# Altium integrated library TI Power Management Linear Regulator Single Channel LDO (0-350mA).IntLib: 1648 symbols (part 52 of 66)
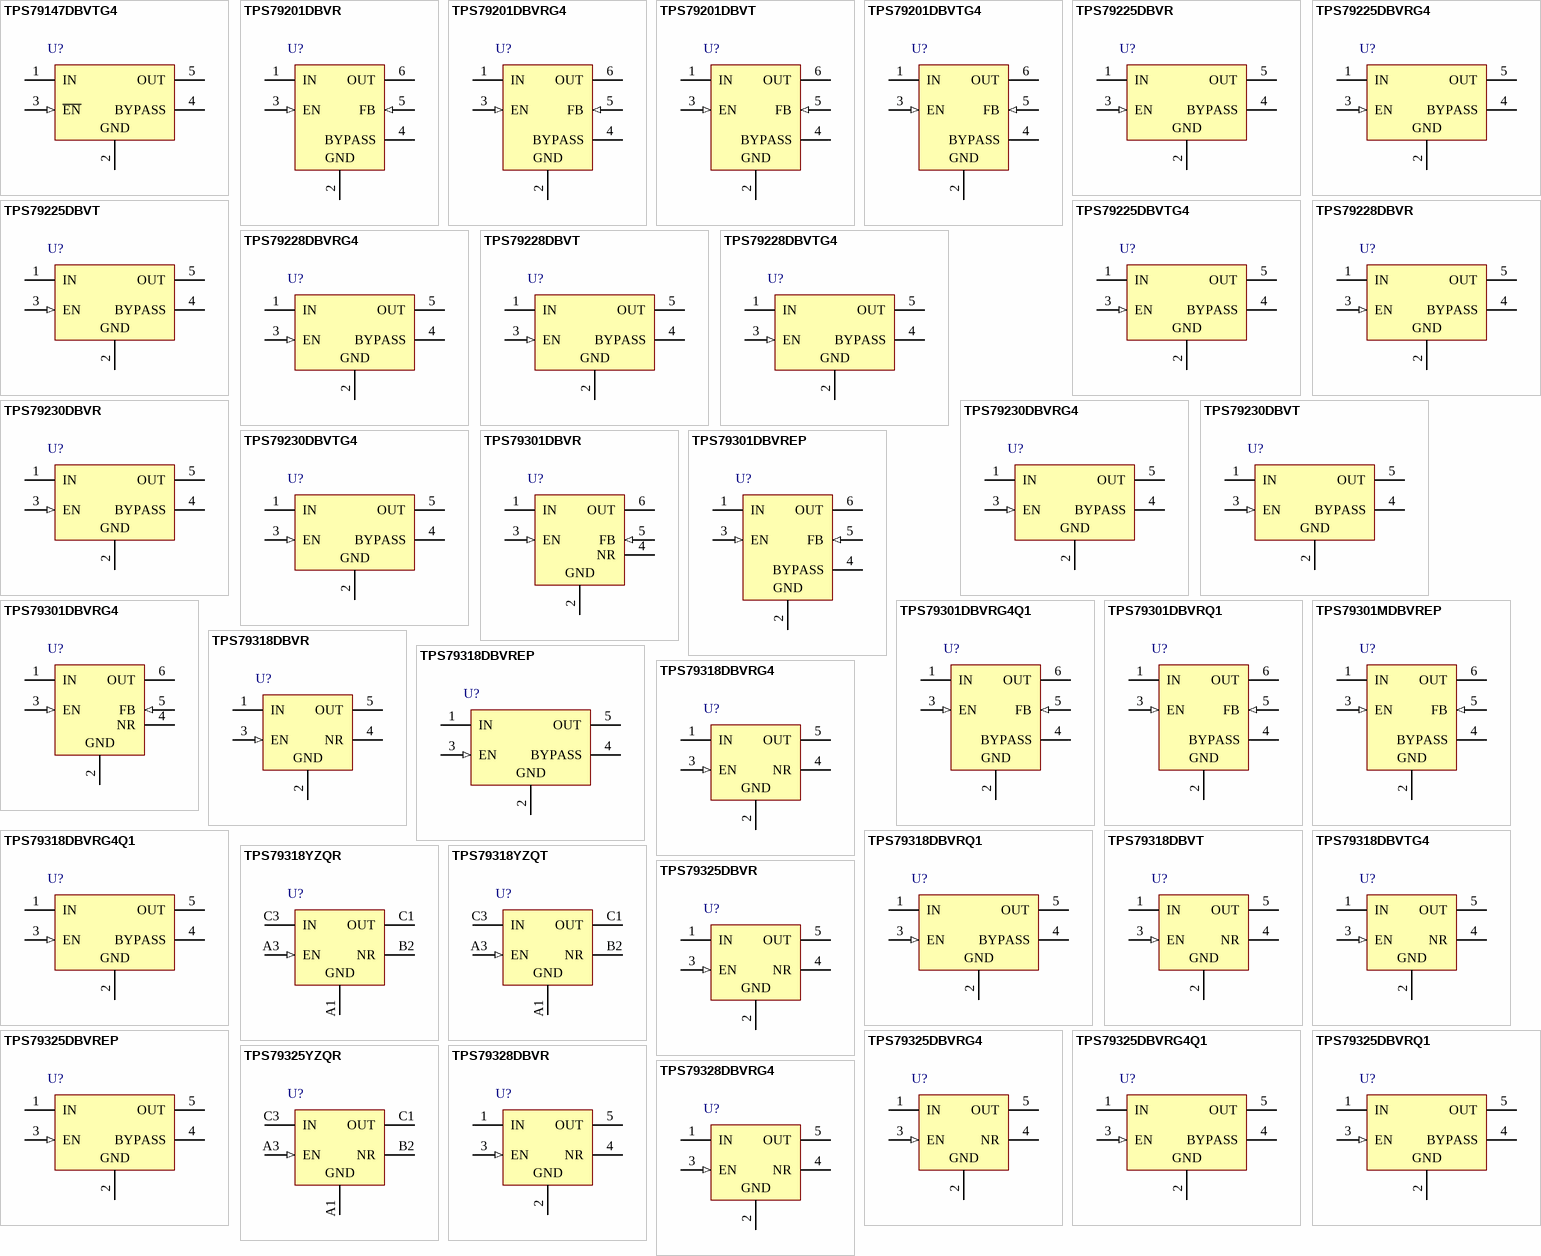
[diagram p93: symbols TPS79147DBVTG4 to TPS79328DBVRG4]

## TPS79325YZQR
designator U?
Single Output High PSRR LDO, 200 mA, Fixed 2.5 V Output, 2.7 to 5.5 V Input, 5-pin DSBGA (YZQ), -40 to 85 degC, Green (RoHS & no Sb/Br); Manufacturer: Texas Instruments; PartNumber: TPS79325YZQR; Accuracy(%): 2; Fixed Output Options(V): 2.5; Iout(Max)(A): 0.2; Rating: Catalog; SubFamily: Single Channel LDO; Vdo(Typ)(mV): 112; Vin(Max)(V): 5.5; Vin(Min)(V): 2.7; DatasheetVersion: SLVS348K; PackageVersion: 4205677/C; PackageReference: YZQ5; PackageDescription: 5-Pin Silicon Grid Array, Body 1.32 x 0.815 mm, Pitch 0.25 mm; Supplier 1: Digi-Key; Supplier Part Number 1: 296-21286-2-ND; Supplier 2: Digi-Key; Supplier Part Number 2: 296-21286-1-ND; Supplier 3: Digi-Key; Supplier Part Number 3: 296-21286-6-ND; Supplier 4: Newark; Supplier Part Number 4: 37K4641; Supplier 5: Mouser; Supplier Part Number 5: 595-TPS79325YZQR; Eco-Plan: Green (RoHS & no Sb/Br); Iq(Typ)(mA): 0.2; Vout Adj(Max)(V): 2.5; Vout Adj(Min)(V): 2.5; Mounting Technology: Surface Mount; ComponentLink1Description: Manufacturer URL; ComponentLink1URL: http://www.ti.com/; ComponentLink2Description: Datasheet; ComponentLink2URL: http://www.ti.com/general/docs/lit/getliterature.tsp?genericPartNumber=TPS79325&fileType=pdf; ComponentLink3Description: Package Specification; ComponentLink3URL: http://www.ti.com/litv/pdf/mxbg047b
footprint TI-YZQ5-1320x815DE (BAG, 5-Balls, Body 1.32x0.815mm, Pitch 0.25mm)
pins: A1 GND (power) "Ground", A3 EN (in) "Driving the enable pin (EN) high turns on the regulator.Driving this pin low puts the regulator into shutdown mode.EN can be connected to IN if not used.", B2 NR "Connecting an external capacitor to this pin bypasses noise generated by the internal bandgap.This improves power-supply rejection and reduces output noise.", C1 OUT (power) "Output of the regulator.", C3 IN (power) "Input to the device."

## TPS79328DBVR
designator U?
Single Output High PSRR LDO, 200 mA, Fixed 2.8 V Output, 2.7 to 5.5 V Input, 5-pin SOT-23 (DBV), -40 to 85 degC, Green (RoHS & no Sb/Br); Manufacturer: Texas Instruments; PartNumber: TPS79328DBVR; Accuracy(%): 2; Fixed Output Options(V): 2.8; Iout(Max)(A): 0.2; Rating: Catalog; SubFamily: Single Channel LDO; Vdo(Typ)(mV): 120; Vin(Max)(V): 5.5; Vin(Min)(V): 2.7; DatasheetVersion: SLVS348K; PackageVersion: 4073253-4/K; PackageReference: DBV5; PackageDescription: 5-Pin Plastic Small Outline, Body 1.60 × 2.90 mm, Pitch 0.95 mm; Supplier 1: Digi-Key; Supplier Part Number 1: 296-12158-2-ND; Supplier 2: Digi-Key; Supplier Part Number 2: 296-12158-1-ND; Supplier 3: Digi-Key; Supplier Part Number 3: 296-12158-6-ND; Supplier 4: Newark; Supplier Part Number 4: 77C1361; Supplier 5: Mouser; Supplier Part Number 5: 595-TPS79328DBVR; Eco-Plan: Green (RoHS & no Sb/Br); Iq(Typ)(mA): 0.2; Vout Adj(Max)(V): 2.8; Vout Adj(Min)(V): 2.8; Mounting Technology: Surface Mount; Code_JEDEC: MO-178; ComponentLink1Description: Manufacturer URL; ComponentLink1URL: http://www.ti.com/; ComponentLink2Description: Datasheet; ComponentLink2URL: http://www.ti.com/general/docs/lit/getliterature.tsp?genericPartNumber=TPS79328&fileType=pdf; ComponentLink3Description: Package Specification; ComponentLink3URL: http://www.ti.com/litv/pdf/mpds018i
footprint TI-DBV5_N (SOT23, 5-Leads, Body 2.9x1.6mm, Pitch 0.95mm, IPC Medium Density)
footprint TI-DBV5_L (SOT23, 5-Leads, Body 2.9x1.6mm, Pitch 0.95mm, IPC High Density)
footprint TI-DBV5_M (SOT23, 5-Leads, Body 2.9x1.6mm, Pitch 0.95mm, IPC Low Density)
pins: 1 IN (power) "Input supply.", 2 GND (power) "Ground.", 3 EN (in) "Driving the enable pin (EN) high turns on the regulator .Driving this pin low puts the regulator into shutdown mode.EN can be connected to IN if not used.", 4 NR "Fixed voltage versions only; connecting an external capacitor to this pin bypasses noise generated by the internal bandgap. This capacitor allows output noise to be reduced to very low levels.", 5 OUT (power) "Output for the regulator. A small capacitor (total typical capacitance >= 2.0uF ceramic) is needed from this pin to ground to assure stability."

## TPS79328DBVRG4
designator U?
Single Output High PSRR LDO, 200 mA, Fixed 2.8 V Output, 2.7 to 5.5 V Input, 5-pin SOT-23 (DBV), -40 to 85 degC, Green (RoHS & no Sb/Br); Manufacturer: Texas Instruments; PartNumber: TPS79328DBVRG4; Accuracy(%): 2; Fixed Output Options(V): 2.8; Iout(Max)(A): 0.2; Rating: Catalog; SubFamily: Single Channel LDO; Vdo(Typ)(mV): 120; Vin(Max)(V): 5.5; Vin(Min)(V): 2.7; DatasheetVersion: SLVS348K; PackageVersion: 4073253-4/K; PackageReference: DBV5; PackageDescription: 5-Pin Plastic Small Outline, Body 1.60 × 2.90 mm, Pitch 0.95 mm; Supplier 1: Digi-Key; Supplier Part Number 1: TPS79328DBVRG4-ND; Supplier 2: Farnell; Supplier Part Number 2: 1287687RL; Supplier 3: Farnell; Supplier Part Number 3: 1287687; Supplier 4: Newark; Supplier Part Number 4: 26M4295; Supplier 5: Mouser; Supplier Part Number 5: 595-TPS79328DBVRG4; Eco-Plan: Green (RoHS & no Sb/Br); Iq(Typ)(mA): 0.2; Vout Adj(Max)(V): 2.8; Vout Adj(Min)(V): 2.8; Mounting Technology: Surface Mount; Code_JEDEC: MO-178; ComponentLink1Description: Manufacturer URL; ComponentLink1URL: http://www.ti.com/; ComponentLink2Description: Datasheet; ComponentLink2URL: http://www.ti.com/general/docs/lit/getliterature.tsp?genericPartNumber=TPS79328&fileType=pdf; ComponentLink3Description: Package Specification; ComponentLink3URL: http://www.ti.com/litv/pdf/mpds018i
footprint TI-DBV5_N (SOT23, 5-Leads, Body 2.9x1.6mm, Pitch 0.95mm, IPC Medium Density)
footprint TI-DBV5_L (SOT23, 5-Leads, Body 2.9x1.6mm, Pitch 0.95mm, IPC High Density)
footprint TI-DBV5_M (SOT23, 5-Leads, Body 2.9x1.6mm, Pitch 0.95mm, IPC Low Density)
pins: 1 IN (power) "Input supply.", 2 GND (power) "Ground.", 3 EN (in) "Driving the enable pin (EN) high turns on the regulator .Driving this pin low puts the regulator into shutdown mode.EN can be connected to IN if not used.", 4 NR "Fixed voltage versions only; connecting an external capacitor to this pin bypasses noise generated by the internal bandgap. This capacitor allows output noise to be reduced to very low levels.", 5 OUT (power) "Output for the regulator. A small capacitor (total typical capacitance >= 2.0uF ceramic) is needed from this pin to ground to assure stability."

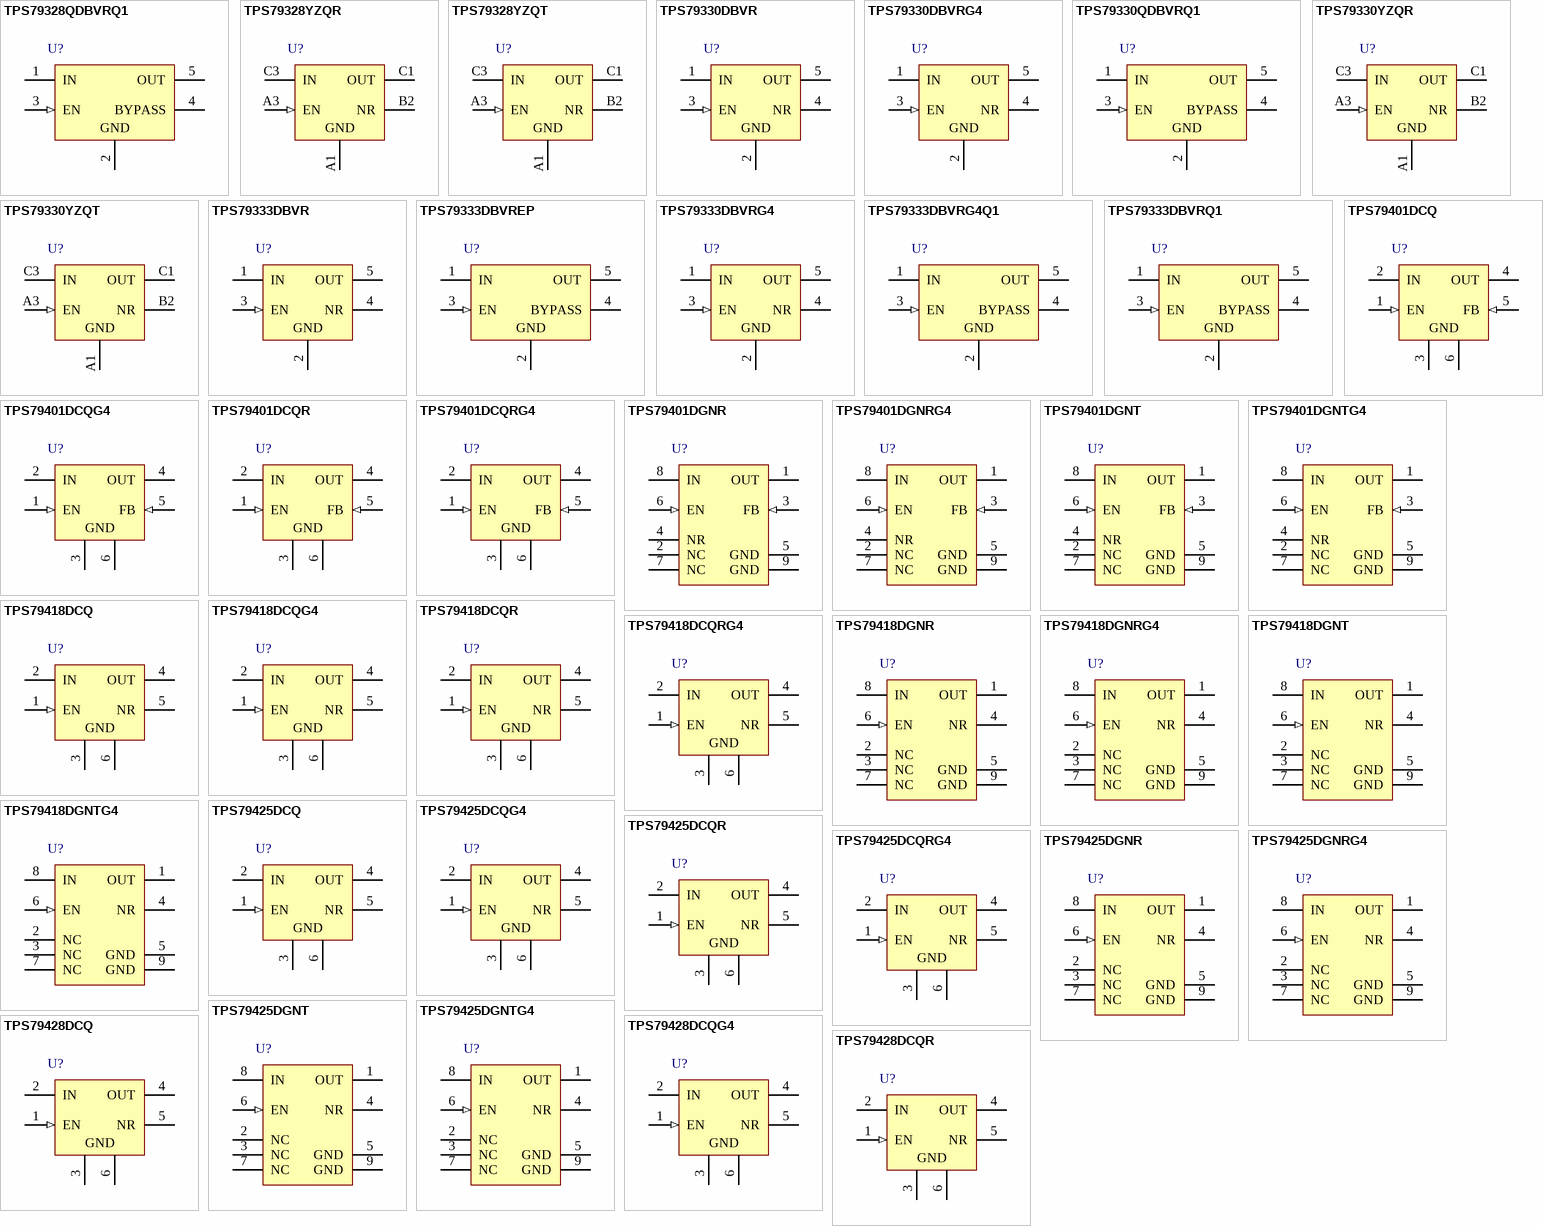
[diagram p34: symbols TPS79328QDBVRQ1 to TPS79428DCQR]

## TPS79328QDBVRQ1
designator U?
Single Output Fast RF LDO, 200 mA, Fixed 2.8 V Output, 2.7 to 5.5 V Input, 5-pin SOT-23 (DBV), -40 to 125 degC, Green (RoHS & no Sb/Br); Manufacturer: Texas Instruments; PartNumber: TPS79328QDBVRQ1; Accuracy(%): 2; Fixed Output Options(V): 2.8; Iout(Max)(A): 0.2; Rating: Automotive; SubFamily: Single Channel LDO; Vdo(Typ)(mV): 120; Vin(Max)(V): 5.5; Vin(Min)(V): 2.7; DatasheetVersion: SGLS162G; PackageVersion: 4073253-4/K; PackageReference: DBV5; PackageDescription: 5-Pin Plastic Small Outline, Body 1.60 × 2.90 mm, Pitch 0.95 mm; Supplier 1: Digi-Key; Supplier Part Number 1: TPS79328QDBVRQ1-ND; Supplier 2: Mouser; Supplier Part Number 2: 595-TPS79328QDBVRQ1; Eco-Plan: Green (RoHS & no Sb/Br); Iq(Typ)(mA): 0.2; Vout Adj(Max)(V): 2.8; Vout Adj(Min)(V): 2.8; Mounting Technology: Surface Mount; Code_JEDEC: MO-178; ComponentLink1Description: Manufacturer URL; ComponentLink1URL: http://www.ti.com/; ComponentLink2Description: Datasheet; ComponentLink2URL: http://www.ti.com/general/docs/lit/getliterature.tsp?genericPartNumber=TPS79328-Q1&fileType=pdf; ComponentLink3Description: Package Specification; ComponentLink3URL: http://www.ti.com/litv/pdf/mpds018i
footprint TI-DBV5_N (SOT23, 5-Leads, Body 2.9x1.6mm, Pitch 0.95mm, IPC Medium Density)
footprint TI-DBV5_L (SOT23, 5-Leads, Body 2.9x1.6mm, Pitch 0.95mm, IPC High Density)
footprint TI-DBV5_M (SOT23, 5-Leads, Body 2.9x1.6mm, Pitch 0.95mm, IPC Low Density)
pins: 1 IN (power) "Input to the device", 2 GND (power) "Regulator ground", 3 EN (in) "Enable input that enables or shuts down the device. When EN goes to a logic high, the device is enabled. When the device goes to a logic low, the devices is in shutdown mode.", 4 BYPASS "An external bypass capacitor, connected to this terminal, in conjunction with an internal resistor, creates a low-pass filter to further reduce regulator noise.", 5 OUT (power) "Regulated output of the device"

## TPS79328YZQR
designator U?
Single Output High PSRR LDO, 200 mA, Fixed 2.8 V Output, 2.7 to 5.5 V Input, 5-pin DSBGA (YZQ), -40 to 85 degC, Green (RoHS & no Sb/Br); Manufacturer: Texas Instruments; PartNumber: TPS79328YZQR; Accuracy(%): 2; Fixed Output Options(V): 2.8; Iout(Max)(A): 0.2; Rating: Catalog; SubFamily: Single Channel LDO; Vdo(Typ)(mV): 120; Vin(Max)(V): 5.5; Vin(Min)(V): 2.7; DatasheetVersion: SLVS348K; PackageVersion: 4205677/C; PackageReference: YZQ5; PackageDescription: 5-Pin Silicon Grid Array, Body 1.32 x 0.815 mm, Pitch 0.25 mm; Supplier 1: Digi-Key; Supplier Part Number 1: TPS79328YZQR-ND; Supplier 2: Mouser; Supplier Part Number 2: 595-TPS79328YZQR; Eco-Plan: Green (RoHS & no Sb/Br); Iq(Typ)(mA): 0.2; Vout Adj(Max)(V): 2.8; Vout Adj(Min)(V): 2.8; Mounting Technology: Surface Mount; ComponentLink1Description: Manufacturer URL; ComponentLink1URL: http://www.ti.com/; ComponentLink2Description: Datasheet; ComponentLink2URL: http://www.ti.com/general/docs/lit/getliterature.tsp?genericPartNumber=TPS79328&fileType=pdf; ComponentLink3Description: Package Specification; ComponentLink3URL: http://www.ti.com/litv/pdf/mxbg047b
footprint TI-YZQ5-1320x815DE (BAG, 5-Balls, Body 1.32x0.815mm, Pitch 0.25mm)
pins: A1 GND (power) "Ground", A3 EN (in) "Driving the enable pin (EN) high turns on the regulator.Driving this pin low puts the regulator into shutdown mode.EN can be connected to IN if not used.", B2 NR "Connecting an external capacitor to this pin bypasses noise generated by the internal bandgap.This improves power-supply rejection and reduces output noise.", C1 OUT (power) "Output of the regulator.", C3 IN (power) "Input to the device."

## TPS79328YZQT
designator U?
Single Output High PSRR LDO, 200 mA, Fixed 2.8 V Output, 2.7 to 5.5 V Input, 5-pin DSBGA (YZQ), -40 to 85 degC, Green (RoHS & no Sb/Br); Manufacturer: Texas Instruments; PartNumber: TPS79328YZQT; Accuracy(%): 2; Fixed Output Options(V): 2.8; Iout(Max)(A): 0.2; Rating: Catalog; SubFamily: Single Channel LDO; Vdo(Typ)(mV): 120; Vin(Max)(V): 5.5; Vin(Min)(V): 2.7; DatasheetVersion: SLVS348K; PackageVersion: 4205677/C; PackageReference: YZQ5; PackageDescription: 5-Pin Silicon Grid Array, Body 1.32 x 0.815 mm, Pitch 0.25 mm; Supplier 1: Digi-Key; Supplier Part Number 1: 296-18735-2-ND; Supplier 2: Digi-Key; Supplier Part Number 2: 296-18735-1-ND; Supplier 3: Digi-Key; Supplier Part Number 3: 296-18735-6-ND; Supplier 4: Mouser; Supplier Part Number 4: 595-TPS79328YZQT; Eco-Plan: Green (RoHS & no Sb/Br); Iq(Typ)(mA): 0.2; Vout Adj(Max)(V): 2.8; Vout Adj(Min)(V): 2.8; Mounting Technology: Surface Mount; ComponentLink1Description: Manufacturer URL; ComponentLink1URL: http://www.ti.com/; ComponentLink2Description: Datasheet; ComponentLink2URL: http://www.ti.com/general/docs/lit/getliterature.tsp?genericPartNumber=TPS79328&fileType=pdf; ComponentLink3Description: Package Specification; ComponentLink3URL: http://www.ti.com/litv/pdf/mxbg047b
footprint TI-YZQ5-1320x815DE (BAG, 5-Balls, Body 1.32x0.815mm, Pitch 0.25mm)
pins: A1 GND (power) "Ground", A3 EN (in) "Driving the enable pin (EN) high turns on the regulator.Driving this pin low puts the regulator into shutdown mode.EN can be connected to IN if not used.", B2 NR "Connecting an external capacitor to this pin bypasses noise generated by the internal bandgap.This improves power-supply rejection and reduces output noise.", C1 OUT (power) "Output of the regulator.", C3 IN (power) "Input to the device."

## TPS79330DBVR
designator U?
Single Output High PSRR LDO, 200 mA, Fixed 3 V Output, 2.7 to 5.5 V Input, 5-pin SOT-23 (DBV), -40 to 85 degC, Green (RoHS & no Sb/Br); Manufacturer: Texas Instruments; PartNumber: TPS79330DBVR; Accuracy(%): 2; Fixed Output Options(V): 3; Iout(Max)(A): 0.2; Rating: Catalog; SubFamily: Single Channel LDO; Vdo(Typ)(mV): 112; Vin(Max)(V): 5.5; Vin(Min)(V): 2.7; DatasheetVersion: SLVS348K; PackageVersion: 4073253-4/K; PackageReference: DBV5; PackageDescription: 5-Pin Plastic Small Outline, Body 1.60 × 2.90 mm, Pitch 0.95 mm; Supplier 1: Digi-Key; Supplier Part Number 1: 296-12159-2-ND; Supplier 2: Digi-Key; Supplier Part Number 2: 296-12159-1-ND; Supplier 3: Digi-Key; Supplier Part Number 3: 296-12159-6-ND; Supplier 4: Farnell; Supplier Part Number 4: 1535767; Supplier 5: Newark; Supplier Part Number 5: 77C1364; Supplier 6: Mouser; Supplier Part Number 6: 595-TPS79330DBVR; Eco-Plan: Green (RoHS & no Sb/Br); Iq(Typ)(mA): 0.2; Vout Adj(Max)(V): 3; Vout Adj(Min)(V): 3; Mounting Technology: Surface Mount; Code_JEDEC: MO-178; ComponentLink1Description: Manufacturer URL; ComponentLink1URL: http://www.ti.com/; ComponentLink2Description: Datasheet; ComponentLink2URL: http://www.ti.com/general/docs/lit/getliterature.tsp?genericPartNumber=TPS79330&fileType=pdf; ComponentLink3Description: Package Specification; ComponentLink3URL: http://www.ti.com/litv/pdf/mpds018i
footprint TI-DBV5_N (SOT23, 5-Leads, Body 2.9x1.6mm, Pitch 0.95mm, IPC Medium Density)
footprint TI-DBV5_L (SOT23, 5-Leads, Body 2.9x1.6mm, Pitch 0.95mm, IPC High Density)
footprint TI-DBV5_M (SOT23, 5-Leads, Body 2.9x1.6mm, Pitch 0.95mm, IPC Low Density)
pins: 1 IN (power) "Input supply.", 2 GND (power) "Ground.", 3 EN (in) "Driving the enable pin (EN) high turns on the regulator .Driving this pin low puts the regulator into shutdown mode.EN can be connected to IN if not used.", 4 NR "Fixed voltage versions only; connecting an external capacitor to this pin bypasses noise generated by the internal bandgap. This capacitor allows output noise to be reduced to very low levels.", 5 OUT (power) "Output for the regulator. A small capacitor (total typical capacitance >= 2.0uF ceramic) is needed from this pin to ground to assure stability."

## TPS79330DBVRG4
designator U?
Single Output High PSRR LDO, 200 mA, Fixed 3 V Output, 2.7 to 5.5 V Input, 5-pin SOT-23 (DBV), -40 to 85 degC, Green (RoHS & no Sb/Br); Manufacturer: Texas Instruments; PartNumber: TPS79330DBVRG4; Accuracy(%): 2; Fixed Output Options(V): 3; Iout(Max)(A): 0.2; Rating: Catalog; SubFamily: Single Channel LDO; Vdo(Typ)(mV): 112; Vin(Max)(V): 5.5; Vin(Min)(V): 2.7; DatasheetVersion: SLVS348K; PackageVersion: 4073253-4/K; PackageReference: DBV5; PackageDescription: 5-Pin Plastic Small Outline, Body 1.60 × 2.90 mm, Pitch 0.95 mm; Supplier 1: Digi-Key; Supplier Part Number 1: TPS79330DBVRG4-ND; Supplier 2: Farnell; Supplier Part Number 2: 1287688RL; Supplier 3: Farnell; Supplier Part Number 3: 1287688; Supplier 4: Newark; Supplier Part Number 4: 26M4296; Supplier 5: Newark; Supplier Part Number 5: 71J8300; Supplier 6: Mouser; Supplier Part Number 6: 595-TPS79330DBVRG4; Eco-Plan: Green (RoHS & no Sb/Br); Iq(Typ)(mA): 0.2; Vout Adj(Max)(V): 3; Vout Adj(Min)(V): 3; Mounting Technology: Surface Mount; Code_JEDEC: MO-178; ComponentLink1Description: Manufacturer URL; ComponentLink1URL: http://www.ti.com/; ComponentLink2Description: Datasheet; ComponentLink2URL: http://www.ti.com/general/docs/lit/getliterature.tsp?genericPartNumber=TPS79330&fileType=pdf; ComponentLink3Description: Package Specification; ComponentLink3URL: http://www.ti.com/litv/pdf/mpds018i
footprint TI-DBV5_N (SOT23, 5-Leads, Body 2.9x1.6mm, Pitch 0.95mm, IPC Medium Density)
footprint TI-DBV5_L (SOT23, 5-Leads, Body 2.9x1.6mm, Pitch 0.95mm, IPC High Density)
footprint TI-DBV5_M (SOT23, 5-Leads, Body 2.9x1.6mm, Pitch 0.95mm, IPC Low Density)
pins: 1 IN (power) "Input supply.", 2 GND (power) "Ground.", 3 EN (in) "Driving the enable pin (EN) high turns on the regulator .Driving this pin low puts the regulator into shutdown mode.EN can be connected to IN if not used.", 4 NR "Fixed voltage versions only; connecting an external capacitor to this pin bypasses noise generated by the internal bandgap. This capacitor allows output noise to be reduced to very low levels.", 5 OUT (power) "Output for the regulator. A small capacitor (total typical capacitance >= 2.0uF ceramic) is needed from this pin to ground to assure stability."

## TPS79330QDBVRQ1
designator U?
Single Output High PSRR LDO, 200 mA, Fixed 3 V Output, 2.7 to 5.5 V Input, 5-pin SOT-23 (DBV), -40 to 125 degC, Green (RoHS & no Sb/Br); Manufacturer: Texas Instruments; PartNumber: TPS79330QDBVRQ1; Accuracy(%): 2; Fixed Output Options(V): 3; Iout(Max)(A): 0.2; Rating: Automotive; SubFamily: Single Channel LDO; Vdo(Typ)(mV): 112; Vin(Max)(V): 5.5; Vin(Min)(V): 2.7; DatasheetVersion: SGLS162G; PackageVersion: 4073253-4/K; PackageReference: DBV5; PackageDescription: 5-Pin Plastic Small Outline, Body 1.60 × 2.90 mm, Pitch 0.95 mm; Supplier 1: Digi-Key; Supplier Part Number 1: 296-27749-2-ND; Supplier 2: Digi-Key; Supplier Part Number 2: 296-27749-1-ND; Supplier 3: Digi-Key; Supplier Part Number 3: 296-27749-6-ND; Supplier 4: Newark; Supplier Part Number 4: 01T0896; Supplier 5: Mouser; Supplier Part Number 5: 595-TPS79330QDBVRQ1; Eco-Plan: Green (RoHS & no Sb/Br); Iq(Typ)(mA): 0.2; Vout Adj(Max)(V): 3; Vout Adj(Min)(V): 3; Mounting Technology: Surface Mount; Code_JEDEC: MO-178; ComponentLink1Description: Manufacturer URL; ComponentLink1URL: http://www.ti.com/; ComponentLink2Description: Datasheet; ComponentLink2URL: http://www.ti.com/general/docs/lit/getliterature.tsp?genericPartNumber=TPS79330-Q1&fileType=pdf; ComponentLink3Description: Package Specification; ComponentLink3URL: http://www.ti.com/litv/pdf/mpds018i
footprint TI-DBV5_N (SOT23, 5-Leads, Body 2.9x1.6mm, Pitch 0.95mm, IPC Medium Density)
footprint TI-DBV5_L (SOT23, 5-Leads, Body 2.9x1.6mm, Pitch 0.95mm, IPC High Density)
footprint TI-DBV5_M (SOT23, 5-Leads, Body 2.9x1.6mm, Pitch 0.95mm, IPC Low Density)
pins: 1 IN (power) "Input to the device", 2 GND (power) "Regulator ground", 3 EN (in) "Enable input that enables or shuts down the device. When EN goes to a logic high, the device is enabled. When the device goes to a logic low, the devices is in shutdown mode.", 4 BYPASS "An external bypass capacitor, connected to this terminal, in conjunction with an internal resistor, creates a low-pass filter to further reduce regulator noise.", 5 OUT (power) "Regulated output of the device"

## TPS79330YZQR
designator U?
Single Output High PSRR LDO, 200 mA, Fixed 3 V Output, 2.7 to 5.5 V Input, 5-pin DSBGA (YZQ), -40 to 85 degC, Green (RoHS & no Sb/Br); Manufacturer: Texas Instruments; PartNumber: TPS79330YZQR; Accuracy(%): 2; Fixed Output Options(V): 3; Iout(Max)(A): 0.2; Rating: Catalog; SubFamily: Single Channel LDO; Vdo(Typ)(mV): 112; Vin(Max)(V): 5.5; Vin(Min)(V): 2.7; DatasheetVersion: SLVS348K; PackageVersion: 4205677/C; PackageReference: YZQ5; PackageDescription: 5-Pin Silicon Grid Array, Body 1.32 x 0.815 mm, Pitch 0.25 mm; Supplier 1: Digi-Key; Supplier Part Number 1: 296-19894-2-ND; Supplier 2: Digi-Key; Supplier Part Number 2: 296-19894-1-ND; Supplier 3: Digi-Key; Supplier Part Number 3: 296-19894-6-ND; Supplier 4: Mouser; Supplier Part Number 4: 595-TPS79330YZQR; Eco-Plan: Green (RoHS & no Sb/Br); Iq(Typ)(mA): 0.2; Vout Adj(Max)(V): 3; Vout Adj(Min)(V): 3; Mounting Technology: Surface Mount; ComponentLink1Description: Manufacturer URL; ComponentLink1URL: http://www.ti.com/; ComponentLink2Description: Datasheet; ComponentLink2URL: http://www.ti.com/general/docs/lit/getliterature.tsp?genericPartNumber=TPS79330&fileType=pdf; ComponentLink3Description: Package Specification; ComponentLink3URL: http://www.ti.com/litv/pdf/mxbg047b
footprint TI-YZQ5-1320x815DE (BAG, 5-Balls, Body 1.32x0.815mm, Pitch 0.25mm)
pins: A1 GND (power) "Ground", A3 EN (in) "Driving the enable pin (EN) high turns on the regulator.Driving this pin low puts the regulator into shutdown mode.EN can be connected to IN if not used.", B2 NR "Connecting an external capacitor to this pin bypasses noise generated by the internal bandgap.This improves power-supply rejection and reduces output noise.", C1 OUT (power) "Output of the regulator.", C3 IN (power) "Input to the device."

## TPS79330YZQT
designator U?
Single Output High PSRR LDO, 200 mA, Fixed 3 V Output, 2.7 to 5.5 V Input, 5-pin DSBGA (YZQ), -40 to 85 degC, Green (RoHS & no Sb/Br); Manufacturer: Texas Instruments; PartNumber: TPS79330YZQT; Accuracy(%): 2; Fixed Output Options(V): 3; Iout(Max)(A): 0.2; Rating: Catalog; SubFamily: Single Channel LDO; Vdo(Typ)(mV): 112; Vin(Max)(V): 5.5; Vin(Min)(V): 2.7; DatasheetVersion: SLVS348K; PackageVersion: 4205677/C; PackageReference: YZQ5; PackageDescription: 5-Pin Silicon Grid Array, Body 1.32 x 0.815 mm, Pitch 0.25 mm; Supplier 1: Digi-Key; Supplier Part Number 1: 296-32578-2-ND; Supplier 2: Digi-Key; Supplier Part Number 2: 296-32578-1-ND; Supplier 3: Digi-Key; Supplier Part Number 3: 296-32578-6-ND; Supplier 4: Mouser; Supplier Part Number 4: 595-TPS79330YZQT; Eco-Plan: Green (RoHS & no Sb/Br); Iq(Typ)(mA): 0.2; Vout Adj(Max)(V): 3; Vout Adj(Min)(V): 3; Mounting Technology: Surface Mount; ComponentLink1Description: Manufacturer URL; ComponentLink1URL: http://www.ti.com/; ComponentLink2Description: Datasheet; ComponentLink2URL: http://www.ti.com/general/docs/lit/getliterature.tsp?genericPartNumber=TPS79330&fileType=pdf; ComponentLink3Description: Package Specification; ComponentLink3URL: http://www.ti.com/litv/pdf/mxbg047b
footprint TI-YZQ5-1320x815DE (BAG, 5-Balls, Body 1.32x0.815mm, Pitch 0.25mm)
pins: A1 GND (power) "Ground", A3 EN (in) "Driving the enable pin (EN) high turns on the regulator.Driving this pin low puts the regulator into shutdown mode.EN can be connected to IN if not used.", B2 NR "Connecting an external capacitor to this pin bypasses noise generated by the internal bandgap.This improves power-supply rejection and reduces output noise.", C1 OUT (power) "Output of the regulator.", C3 IN (power) "Input to the device."

## TPS79333DBVR
designator U?
Single Output High PSRR LDO, 200 mA, Fixed 3.3 V Output, 2.7 to 5.5 V Input, 5-pin SOT-23 (DBV), -40 to 85 degC, Green (RoHS & no Sb/Br); Manufacturer: Texas Instruments; PartNumber: TPS79333DBVR; Accuracy(%): 2; Fixed Output Options(V): 3.3; Iout(Max)(A): 0.2; Rating: Catalog; SubFamily: Single Channel LDO; Vdo(Typ)(mV): 102; Vin(Max)(V): 5.5; Vin(Min)(V): 2.7; DatasheetVersion: SLVS348K; PackageVersion: 4073253-4/K; PackageReference: DBV5; PackageDescription: 5-Pin Plastic Small Outline, Body 1.60 × 2.90 mm, Pitch 0.95 mm; Supplier 1: Digi-Key; Supplier Part Number 1: 296-12961-2-ND; Supplier 2: Digi-Key; Supplier Part Number 2: 296-12961-1-ND; Supplier 3: Digi-Key; Supplier Part Number 3: 296-12961-6-ND; Supplier 4: Farnell; Supplier Part Number 4: 1470478; Supplier 5: Farnell; Supplier Part Number 5: 1470478RL; Supplier 6: Newark; Supplier Part Number 6: 77C1365; Supplier 7: Mouser; Supplier Part Number 7: 595-TPS79333DBVR; Eco-Plan: Green (RoHS & no Sb/Br); Iq(Typ)(mA): 0.2; Vout Adj(Max)(V): 3.3; Vout Adj(Min)(V): 3.3; Mounting Technology: Surface Mount; Code_JEDEC: MO-178; ComponentLink1Description: Manufacturer URL; ComponentLink1URL: http://www.ti.com/; ComponentLink2Description: Datasheet; ComponentLink2URL: http://www.ti.com/general/docs/lit/getliterature.tsp?genericPartNumber=TPS79333&fileType=pdf; ComponentLink3Description: Package Specification; ComponentLink3URL: http://www.ti.com/litv/pdf/mpds018i
footprint TI-DBV5_N (SOT23, 5-Leads, Body 2.9x1.6mm, Pitch 0.95mm, IPC Medium Density)
footprint TI-DBV5_L (SOT23, 5-Leads, Body 2.9x1.6mm, Pitch 0.95mm, IPC High Density)
footprint TI-DBV5_M (SOT23, 5-Leads, Body 2.9x1.6mm, Pitch 0.95mm, IPC Low Density)
pins: 1 IN (power) "Input supply.", 2 GND (power) "Ground.", 3 EN (in) "Driving the enable pin (EN) high turns on the regulator .Driving this pin low puts the regulator into shutdown mode.EN can be connected to IN if not used.", 4 NR "Fixed voltage versions only; connecting an external capacitor to this pin bypasses noise generated by the internal bandgap. This capacitor allows output noise to be reduced to very low levels.", 5 OUT (power) "Output for the regulator. A small capacitor (total typical capacitance >= 2.0uF ceramic) is needed from this pin to ground to assure stability."

## TPS79333DBVREP
designator U?
Single Output Fast RF LDO, 200 mA, Fixed 3.3 V Output, 2.7 to 5.5 V Input, 5-pin SOT-23 (DBV), -40 to 125 degC, Green (RoHS & no Sb/Br); Manufacturer: Texas Instruments; PartNumber: TPS79333DBVREP; Accuracy(%): 2; Fixed Output Options(V): 3.3; Iout(Max)(A): 0.2; Rating: HiRel Enhanced Product; SubFamily: Single Channel LDO; Vdo(Typ)(mV): 102; Vin(Max)(V): 5.5; Vin(Min)(V): 2.7; DatasheetVersion: SGLS163B; PackageVersion: 4073253-4/K; PackageReference: DBV5; PackageDescription: 5-Pin Plastic Small Outline, Body 1.60 × 2.90 mm, Pitch 0.95 mm; Supplier 1: Digi-Key; Supplier Part Number 1: 296-18172-2-ND; Supplier 2: Digi-Key; Supplier Part Number 2: 296-18172-1-ND; Supplier 3: Digi-Key; Supplier Part Number 3: 296-18172-6-ND; Supplier 4: Newark; Supplier Part Number 4: 46M1206; Supplier 5: Mouser; Supplier Part Number 5: 595-TPS79333DBVREP; Eco-Plan: Green (RoHS & no Sb/Br); Iq(Typ)(mA): 0.2; Vout Adj(Max)(V): 3.3; Vout Adj(Min)(V): 3.3; Mounting Technology: Surface Mount; Code_JEDEC: MO-178; ComponentLink1Description: Manufacturer URL; ComponentLink1URL: http://www.ti.com/; ComponentLink2Description: Datasheet; ComponentLink2URL: http://www.ti.com/general/docs/lit/getliterature.tsp?genericPartNumber=TPS79333-EP&fileType=pdf; ComponentLink3Description: Package Specification; ComponentLink3URL: http://www.ti.com/litv/pdf/mpds018i
footprint TI-DBV5_N (SOT23, 5-Leads, Body 2.9x1.6mm, Pitch 0.95mm, IPC Medium Density)
footprint TI-DBV5_L (SOT23, 5-Leads, Body 2.9x1.6mm, Pitch 0.95mm, IPC High Density)
footprint TI-DBV5_M (SOT23, 5-Leads, Body 2.9x1.6mm, Pitch 0.95mm, IPC Low Density)
pins: 1 IN (power) "Input to the device", 2 GND (power) "Regulator ground", 3 EN (in) "Enable input that enables or shuts down the device. When EN goes to a logic high, the device is enabled. When the device goes to a logic low, the devices is in shutdown mode.", 4 BYPASS "An external bypass capacitor, connected to this terminal, in conjunction with an internal resistor, creates a low-pass filter to further reduce regulator noise.", 5 OUT (power) "Regulated output of the device"

## TPS79333DBVRG4
designator U?
Single Output High PSRR LDO, 200 mA, Fixed 3.3 V Output, 2.7 to 5.5 V Input, 5-pin SOT-23 (DBV), -40 to 85 degC, Green (RoHS & no Sb/Br); Manufacturer: Texas Instruments; PartNumber: TPS79333DBVRG4; Accuracy(%): 2; Fixed Output Options(V): 3.3; Iout(Max)(A): 0.2; Rating: Catalog; SubFamily: Single Channel LDO; Vdo(Typ)(mV): 102; Vin(Max)(V): 5.5; Vin(Min)(V): 2.7; DatasheetVersion: SLVS348K; PackageVersion: 4073253-4/K; PackageReference: DBV5; PackageDescription: 5-Pin Plastic Small Outline, Body 1.60 × 2.90 mm, Pitch 0.95 mm; Supplier 1: Digi-Key; Supplier Part Number 1: TPS79333DBVRG4-ND; Supplier 2: Farnell; Supplier Part Number 2: 1287689; Supplier 3: Farnell; Supplier Part Number 3: 1287689RL; Supplier 4: Newark; Supplier Part Number 4: 26M4297; Supplier 5: Newark; Supplier Part Number 5: 71J8301; Supplier 6: Mouser; Supplier Part Number 6: 595-TPS79333DBVRG4; Eco-Plan: Green (RoHS & no Sb/Br); Iq(Typ)(mA): 0.2; Vout Adj(Max)(V): 3.3; Vout Adj(Min)(V): 3.3; Mounting Technology: Surface Mount; Code_JEDEC: MO-178; ComponentLink1Description: Manufacturer URL; ComponentLink1URL: http://www.ti.com/; ComponentLink2Description: Datasheet; ComponentLink2URL: http://www.ti.com/general/docs/lit/getliterature.tsp?genericPartNumber=TPS79333&fileType=pdf; ComponentLink3Description: Package Specification; ComponentLink3URL: http://www.ti.com/litv/pdf/mpds018i
footprint TI-DBV5_N (SOT23, 5-Leads, Body 2.9x1.6mm, Pitch 0.95mm, IPC Medium Density)
footprint TI-DBV5_L (SOT23, 5-Leads, Body 2.9x1.6mm, Pitch 0.95mm, IPC High Density)
footprint TI-DBV5_M (SOT23, 5-Leads, Body 2.9x1.6mm, Pitch 0.95mm, IPC Low Density)
pins: 1 IN (power) "Input supply.", 2 GND (power) "Ground.", 3 EN (in) "Driving the enable pin (EN) high turns on the regulator .Driving this pin low puts the regulator into shutdown mode.EN can be connected to IN if not used.", 4 NR "Fixed voltage versions only; connecting an external capacitor to this pin bypasses noise generated by the internal bandgap. This capacitor allows output noise to be reduced to very low levels.", 5 OUT (power) "Output for the regulator. A small capacitor (total typical capacitance >= 2.0uF ceramic) is needed from this pin to ground to assure stability."

## TPS79333DBVRG4Q1
designator U?
Single Output Fast RF LDO, 200 mA, Fixed 3.3 V Output, 2.7 to 5.5 V Input, 5-pin SOT-23 (DBV), -40 to 125 degC, Green (RoHS & no Sb/Br); Manufacturer: Texas Instruments; PartNumber: TPS79333DBVRG4Q1; Accuracy(%): 2; Fixed Output Options(V): 3.3; Iout(Max)(A): 0.2; Rating: Automotive; SubFamily: Single Channel LDO; Vdo(Typ)(mV): 102; Vin(Max)(V): 5.5; Vin(Min)(V): 2.7; DatasheetVersion: SGLS162G; PackageVersion: 4073253-4/K; PackageReference: DBV5; PackageDescription: 5-Pin Plastic Small Outline, Body 1.60 × 2.90 mm, Pitch 0.95 mm; Supplier 1: Digi-Key; Supplier Part Number 1: 296-24780-2-ND; Supplier 2: Digi-Key; Supplier Part Number 2: 296-24780-1-ND; Supplier 3: Digi-Key; Supplier Part Number 3: 296-24780-6-ND; Supplier 4: Newark; Supplier Part Number 4: 95M0145; Supplier 5: Mouser; Supplier Part Number 5: 595-TPS79333DBVRG4Q1; Eco-Plan: Green (RoHS & no Sb/Br); Iq(Typ)(mA): 0.2; Vout Adj(Max)(V): 3.3; Vout Adj(Min)(V): 3.3; Mounting Technology: Surface Mount; Code_JEDEC: MO-178; ComponentLink1Description: Manufacturer URL; ComponentLink1URL: http://www.ti.com/; ComponentLink2Description: Datasheet; ComponentLink2URL: http://www.ti.com/general/docs/lit/getliterature.tsp?genericPartNumber=TPS79333-Q1&fileType=pdf; ComponentLink3Description: Package Specification; ComponentLink3URL: http://www.ti.com/litv/pdf/mpds018i
footprint TI-DBV5_N (SOT23, 5-Leads, Body 2.9x1.6mm, Pitch 0.95mm, IPC Medium Density)
footprint TI-DBV5_L (SOT23, 5-Leads, Body 2.9x1.6mm, Pitch 0.95mm, IPC High Density)
footprint TI-DBV5_M (SOT23, 5-Leads, Body 2.9x1.6mm, Pitch 0.95mm, IPC Low Density)
pins: 1 IN (power) "Input to the device", 2 GND (power) "Regulator ground", 3 EN (in) "Enable input that enables or shuts down the device. When EN goes to a logic high, the device is enabled. When the device goes to a logic low, the devices is in shutdown mode.", 4 BYPASS "An external bypass capacitor, connected to this terminal, in conjunction with an internal resistor, creates a low-pass filter to further reduce regulator noise.", 5 OUT (power) "Regulated output of the device"

## TPS79333DBVRQ1
designator U?
Single Output Fast RF LDO, 200 mA, Fixed 3.3 V Output, 2.7 to 5.5 V Input, 5-pin SOT-23 (DBV), -40 to 125 degC, Green (RoHS & no Sb/Br); Manufacturer: Texas Instruments; PartNumber: TPS79333DBVRQ1; Accuracy(%): 2; Fixed Output Options(V): 3.3; Iout(Max)(A): 0.2; Rating: Automotive; SubFamily: Single Channel LDO; Vdo(Typ)(mV): 102; Vin(Max)(V): 5.5; Vin(Min)(V): 2.7; DatasheetVersion: SGLS162G; PackageVersion: 4073253-4/K; PackageReference: DBV5; PackageDescription: 5-Pin Plastic Small Outline, Body 1.60 × 2.90 mm, Pitch 0.95 mm; Supplier 1: Digi-Key; Supplier Part Number 1: 296-15308-2-ND; Supplier 2: Digi-Key; Supplier Part Number 2: 296-15308-1-ND; Supplier 3: Digi-Key; Supplier Part Number 3: 296-15308-6-ND; Supplier 4: Farnell; Supplier Part Number 4: 1624393RL; Supplier 5: Farnell; Supplier Part Number 5: 1624393; Supplier 6: Newark; Supplier Part Number 6: 94T5106; Supplier 7: Newark; Supplier Part Number 7: 67H1799; Supplier 8: Mouser; Supplier Part Number 8: 595-TPS79333DBVRQ1; Eco-Plan: Green (RoHS & no Sb/Br); Iq(Typ)(mA): 0.2; Vout Adj(Max)(V): 3.3; Vout Adj(Min)(V): 3.3; Mounting Technology: Surface Mount; Code_JEDEC: MO-178; ComponentLink1Description: Manufacturer URL; ComponentLink1URL: http://www.ti.com/; ComponentLink2Description: Datasheet; ComponentLink2URL: http://www.ti.com/general/docs/lit/getliterature.tsp?genericPartNumber=TPS79333-Q1&fileType=pdf; ComponentLink3Description: Package Specification; ComponentLink3URL: http://www.ti.com/litv/pdf/mpds018i
footprint TI-DBV5_N (SOT23, 5-Leads, Body 2.9x1.6mm, Pitch 0.95mm, IPC Medium Density)
footprint TI-DBV5_L (SOT23, 5-Leads, Body 2.9x1.6mm, Pitch 0.95mm, IPC High Density)
footprint TI-DBV5_M (SOT23, 5-Leads, Body 2.9x1.6mm, Pitch 0.95mm, IPC Low Density)
pins: 1 IN (power) "Input to the device", 2 GND (power) "Regulator ground", 3 EN (in) "Enable input that enables or shuts down the device. When EN goes to a logic high, the device is enabled. When the device goes to a logic low, the devices is in shutdown mode.", 4 BYPASS "An external bypass capacitor, connected to this terminal, in conjunction with an internal resistor, creates a low-pass filter to further reduce regulator noise.", 5 OUT (power) "Regulated output of the device"

## TPS79401DCQ
designator U?
Single Output High PSRR LDO, 250 mA, Adjustable 1.22 to 5.5 V Output, 2.7 to 5.5 V Input, 6-pin SOT-223 (DCQ), -40 to 85 degC, Green (RoHS & no Sb/Br); Manufacturer: Texas Instruments; PartNumber: TPS79401DCQ; Accuracy(%): 3; Iout(Max)(A): 0.25; Iq(Typ)(mA): 0.26; SubFamily: Single Channel LDO; Vdo(Typ)(mV): 155; Vin(Max)(V): 5.5; Vin(Min)(V): 2.7; Vout Adj(Min)(V): 1.22; DatasheetVersion: SLVS349E; PackageVersion: 4202109/D; PackageReference: DCQ6; PackageDescription: 6-Pin Plastic Small Outline, Body 3.5 x 6.5 mm, Pitch 1.27 mm; Supplier 1: Digi-Key; Supplier Part Number 1: TPS79401DCQ-ND; Supplier 2: Mouser; Supplier Part Number 2: 595-TPS79401DCQ; Eco-Plan: Green (RoHS & no Sb/Br); Vout Adj(Max)(V): 5.5; Mounting Technology: Surface Mount; ComponentLink1Description: Manufacturer URL; ComponentLink1URL: http://www.ti.com/; ComponentLink2Description: Datasheet; ComponentLink2URL: http://www.ti.com/general/docs/lit/getliterature.tsp?genericPartNumber=TPS79401&fileType=pdf; ComponentLink3Description: Package Specification; ComponentLink3URL: http://www.ti.com/litv/pdf/mpds098c
footprint TI-DCQ6_N (SOT223, 6-Leads, Body 6.5x3.5mm, Pitch 1.27mm, IPC Medium Density)
footprint TI-DCQ6_L (SOT223, 6-Leads, Body 6.5x3.5mm, Pitch 1.27mm, IPC High Density)
footprint TI-DCQ6_M (SOT223, 6-Leads, Body 6.5x3.5mm, Pitch 1.27mm, IPC Low Density)
pins: 1 EN (in) "The EN terminal is an input that enables or shuts down the device. When EN is a logic high, the device is enabled. When the device is a logic low, the device is in shutdown mode.", 2 IN (power) "Unregulated input to the device.", 3 GND (power) "Regulator ground", 4 OUT (power) "Regulator output", 5 FB (in) "Feedback input voltage for the adjustable device.", 6 GND (power) "Regulator ground"

## TPS79401DCQG4
designator U?
Single Output High PSRR LDO, 250 mA, Adjustable 1.22 to 5.5 V Output, 2.7 to 5.5 V Input, 6-pin SOT-223 (DCQ), -40 to 85 degC, Green (RoHS & no Sb/Br); Manufacturer: Texas Instruments; PartNumber: TPS79401DCQG4; Accuracy(%): 3; Iout(Max)(A): 0.25; Iq(Typ)(mA): 0.26; SubFamily: Single Channel LDO; Vdo(Typ)(mV): 155; Vin(Max)(V): 5.5; Vin(Min)(V): 2.7; Vout Adj(Min)(V): 1.22; DatasheetVersion: SLVS349E; PackageVersion: 4202109/D; PackageReference: DCQ6; PackageDescription: 6-Pin Plastic Small Outline, Body 3.5 x 6.5 mm, Pitch 1.27 mm; Supplier 1: Digi-Key; Supplier Part Number 1: TPS79401DCQG4-ND; Supplier 2: Mouser; Supplier Part Number 2: 595-TPS79401DCQG4; Eco-Plan: Green (RoHS & no Sb/Br); Vout Adj(Max)(V): 5.5; Mounting Technology: Surface Mount; ComponentLink1Description: Manufacturer URL; ComponentLink1URL: http://www.ti.com/; ComponentLink2Description: Datasheet; ComponentLink2URL: http://www.ti.com/general/docs/lit/getliterature.tsp?genericPartNumber=TPS79401&fileType=pdf; ComponentLink3Description: Package Specification; ComponentLink3URL: http://www.ti.com/litv/pdf/mpds098c
footprint TI-DCQ6_N (SOT223, 6-Leads, Body 6.5x3.5mm, Pitch 1.27mm, IPC Medium Density)
footprint TI-DCQ6_L (SOT223, 6-Leads, Body 6.5x3.5mm, Pitch 1.27mm, IPC High Density)
footprint TI-DCQ6_M (SOT223, 6-Leads, Body 6.5x3.5mm, Pitch 1.27mm, IPC Low Density)
pins: 1 EN (in) "The EN terminal is an input that enables or shuts down the device. When EN is a logic high, the device is enabled. When the device is a logic low, the device is in shutdown mode.", 2 IN (power) "Unregulated input to the device.", 3 GND (power) "Regulator ground", 4 OUT (power) "Regulator output", 5 FB (in) "Feedback input voltage for the adjustable device.", 6 GND (power) "Regulator ground"

## TPS79401DCQR
designator U?
Single Output High PSRR LDO, 250 mA, Adjustable 1.22 to 5.5 V Output, 2.7 to 5.5 V Input, 6-pin SOT-223 (DCQ), -40 to 85 degC, Green (RoHS & no Sb/Br); Manufacturer: Texas Instruments; PartNumber: TPS79401DCQR; Accuracy(%): 3; Iout(Max)(A): 0.25; Iq(Typ)(mA): 0.26; SubFamily: Single Channel LDO; Vdo(Typ)(mV): 155; Vin(Max)(V): 5.5; Vin(Min)(V): 2.7; Vout Adj(Min)(V): 1.22; DatasheetVersion: SLVS349E; PackageVersion: 4202109/D; PackageReference: DCQ6; PackageDescription: 6-Pin Plastic Small Outline, Body 3.5 x 6.5 mm, Pitch 1.27 mm; Supplier 1: Digi-Key; Supplier Part Number 1: 296-14427-2-ND; Supplier 2: Digi-Key; Supplier Part Number 2: 296-14427-1-ND; Supplier 3: Digi-Key; Supplier Part Number 3: 296-14427-6-ND; Supplier 4: Newark; Supplier Part Number 4: 32H6587; Supplier 5: Mouser; Supplier Part Number 5: 595-TPS79401DCQR; Eco-Plan: Green (RoHS & no Sb/Br); Vout Adj(Max)(V): 5.5; Mounting Technology: Surface Mount; ComponentLink1Description: Manufacturer URL; ComponentLink1URL: http://www.ti.com/; ComponentLink2Description: Datasheet; ComponentLink2URL: http://www.ti.com/general/docs/lit/getliterature.tsp?genericPartNumber=TPS79401&fileType=pdf; ComponentLink3Description: Package Specification; ComponentLink3URL: http://www.ti.com/litv/pdf/mpds098c
footprint TI-DCQ6_N (SOT223, 6-Leads, Body 6.5x3.5mm, Pitch 1.27mm, IPC Medium Density)
footprint TI-DCQ6_L (SOT223, 6-Leads, Body 6.5x3.5mm, Pitch 1.27mm, IPC High Density)
footprint TI-DCQ6_M (SOT223, 6-Leads, Body 6.5x3.5mm, Pitch 1.27mm, IPC Low Density)
pins: 1 EN (in) "The EN terminal is an input that enables or shuts down the device. When EN is a logic high, the device is enabled. When the device is a logic low, the device is in shutdown mode.", 2 IN (power) "Unregulated input to the device.", 3 GND (power) "Regulator ground", 4 OUT (power) "Regulator output", 5 FB (in) "Feedback input voltage for the adjustable device.", 6 GND (power) "Regulator ground"

## TPS79401DCQRG4
designator U?
Single Output High PSRR LDO, 250 mA, Adjustable 1.22 to 5.5 V Output, 2.7 to 5.5 V Input, 6-pin SOT-223 (DCQ), -40 to 85 degC, Green (RoHS & no Sb/Br); Manufacturer: Texas Instruments; PartNumber: TPS79401DCQRG4; Accuracy(%): 3; Fixed Output Options(V): 1.8; Iout(Max)(A): 0.25; Iq(Typ)(mA): 0.26; SubFamily: Single Channel LDO; Vdo(Typ)(mV): 155; Vin(Max)(V): 5.5; Vin(Min)(V): 2.7; Vout Adj(Min)(V): 1.22; DatasheetVersion: SLVS349E; PackageVersion: 4202109/D; PackageReference: DCQ6; PackageDescription: 6-Pin Plastic Small Outline, Body 3.5 x 6.5 mm, Pitch 1.27 mm; Supplier 1: Digi-Key; Supplier Part Number 1: TPS79401DCQRG4-ND; Supplier 2: Mouser; Supplier Part Number 2: 595-TPS79401DCQRG4; Eco-Plan: Green (RoHS & no Sb/Br); Vout Adj(Max)(V): 5.5; Mounting Technology: Surface Mount; ComponentLink1Description: Manufacturer URL; ComponentLink1URL: http://www.ti.com/; ComponentLink2Description: Datasheet; ComponentLink2URL: http://www.ti.com/general/docs/lit/getliterature.tsp?genericPartNumber=TPS79401&fileType=pdf; ComponentLink3Description: Package Specification; ComponentLink3URL: http://www.ti.com/litv/pdf/mpds098c
footprint TI-DCQ6_N (SOT223, 6-Leads, Body 6.5x3.5mm, Pitch 1.27mm, IPC Medium Density)
footprint TI-DCQ6_L (SOT223, 6-Leads, Body 6.5x3.5mm, Pitch 1.27mm, IPC High Density)
footprint TI-DCQ6_M (SOT223, 6-Leads, Body 6.5x3.5mm, Pitch 1.27mm, IPC Low Density)
pins: 1 EN (in) "The EN terminal is an input that enables or shuts down the device. When EN is a logic high, the device is enabled. When the device is a logic low, the device is in shutdown mode.", 2 IN (power) "Unregulated input to the device.", 3 GND (power) "Regulator ground", 4 OUT (power) "Regulator output", 5 FB (in) "Feedback input voltage for the adjustable device.", 6 GND (power) "Regulator ground"

## TPS79401DGNR
designator U?
Single Output High PSRR LDO, 250 mA, Adjustable 1.22 to 5.5 V Output, 2.7 to 5.5 V Input, 8-pin MSOP (DGN), -40 to 85 degC, Green (RoHS & no Sb/Br); Manufacturer: Texas Instruments; PartNumber: TPS79401DGNR; Accuracy(%): 3; Fixed Output Options(V): 1.8; Iout(Max)(A): 0.25; Iq(Typ)(mA): 0.26; SubFamily: Single Channel LDO; Vdo(Typ)(mV): 155; Vin(Max)(V): 5.5; Vin(Min)(V): 2.7; Vout Adj(Min)(V): 1.22; DatasheetVersion: SLVS349E; PackageVersion: 4073271/F; PackageReference: DGN8-1760X1425TP; PackageDescription: 8-pin Plastic Small Outline, Body 3 x 3 mm, Pitch 0.65 mm; Supplier 1: Digi-Key; Supplier Part Number 1: 296-13526-2-ND; Supplier 2: Digi-Key; Supplier Part Number 2: 296-13526-1-ND; Supplier 3: Digi-Key; Supplier Part Number 3: 296-13526-6-ND; Supplier 4: Newark; Supplier Part Number 4: 77C1367; Supplier 5: Mouser; Supplier Part Number 5: 595-TPS79401DGNR; Eco-Plan: Green (RoHS & no Sb/Br); Vout Adj(Max)(V): 5.5; Mounting Technology: Surface Mount; Code_JEDEC: MO-187; ComponentLink1Description: Manufacturer URL; ComponentLink1URL: http://www.ti.com/; ComponentLink2Description: Datasheet; ComponentLink2URL: http://www.ti.com/general/docs/lit/getliterature.tsp?genericPartNumber=TPS79401&fileType=pdf; ComponentLink3Description: Package Specification; ComponentLink3URL: http://www.ti.com/litv/pdf/mpds046e
footprint TI-DGN8-1760X1425TP_N (SOIC, 8-Leads, Body 3x3mm, Pitch 0.65mm, Thermal Pad 1.76x1.425mm, IPC Medium Density)
footprint TI-DGN8-1760X1425TP_L (SOIC, 8-Leads, Body 3x3mm, Pitch 0.65mm, Thermal Pad 1.76x1.425mm, IPC High Density)
footprint TI-DGN8-1760X1425TP_M (SOIC, 8-Leads, Body 3x3mm, Pitch 0.65mm, Thermal Pad 1.76x1.425mm, IPC Low Density)
pins: 1 OUT (power) "Regulator output", 2 NC "No internal connection.", 3 FB (in) "Feedback input voltage for the adjustable device.", 4 NR "Connecting an external capacitor to this pin bypasses noise generated by the internal bandgap, which improves power-supply rejection and reduces output noise.", 5 GND (power) "Regulator ground", 6 EN (in) "The EN terminal is an input that enables or shuts down the device. When EN is a logic high, the device is enabled. When the device is a logic low, the device is in shutdown mode.", 7 NC "No internal connection.", 8 IN (power) "Unregulated input to the device.", 9 GND (power) "Regulator ground"

## TPS79401DGNRG4
designator U?
Single Output High PSRR LDO, 250 mA, Adjustable 1.22 to 5.5 V Output, 2.7 to 5.5 V Input, 8-pin MSOP (DGN), -40 to 85 degC, Green (RoHS & no Sb/Br); Manufacturer: Texas Instruments; PartNumber: TPS79401DGNRG4; Accuracy(%): 3; Iout(Max)(A): 0.25; Iq(Typ)(mA): 0.26; SubFamily: Single Channel LDO; Vdo(Typ)(mV): 155; Vin(Max)(V): 5.5; Vin(Min)(V): 2.7; Vout Adj(Min)(V): 1.22; DatasheetVersion: SLVS349E; PackageVersion: 4073271/F; PackageReference: DGN8-1760X1425TP; PackageDescription: 8-pin Plastic Small Outline, Body 3 x 3 mm, Pitch 0.65 mm; Supplier 1: Digi-Key; Supplier Part Number 1: TPS79401DGNRG4-ND; Supplier 2: Newark; Supplier Part Number 2: 08K4976; Supplier 3: Mouser; Supplier Part Number 3: 595-TPS79401DGNRG4; Eco-Plan: Green (RoHS & no Sb/Br); Vout Adj(Max)(V): 5.5; Mounting Technology: Surface Mount; Code_JEDEC: MO-187; ComponentLink1Description: Manufacturer URL; ComponentLink1URL: http://www.ti.com/; ComponentLink2Description: Datasheet; ComponentLink2URL: http://www.ti.com/general/docs/lit/getliterature.tsp?genericPartNumber=TPS79401&fileType=pdf; ComponentLink3Description: Package Specification; ComponentLink3URL: http://www.ti.com/litv/pdf/mpds046e
footprint TI-DGN8-1760X1425TP_N (SOIC, 8-Leads, Body 3x3mm, Pitch 0.65mm, Thermal Pad 1.76x1.425mm, IPC Medium Density)
footprint TI-DGN8-1760X1425TP_L (SOIC, 8-Leads, Body 3x3mm, Pitch 0.65mm, Thermal Pad 1.76x1.425mm, IPC High Density)
footprint TI-DGN8-1760X1425TP_M (SOIC, 8-Leads, Body 3x3mm, Pitch 0.65mm, Thermal Pad 1.76x1.425mm, IPC Low Density)
pins: 1 OUT (power) "Regulator output", 2 NC "No internal connection.", 3 FB (in) "Feedback input voltage for the adjustable device.", 4 NR "Connecting an external capacitor to this pin bypasses noise generated by the internal bandgap, which improves power-supply rejection and reduces output noise.", 5 GND (power) "Regulator ground", 6 EN (in) "The EN terminal is an input that enables or shuts down the device. When EN is a logic high, the device is enabled. When the device is a logic low, the device is in shutdown mode.", 7 NC "No internal connection.", 8 IN (power) "Unregulated input to the device.", 9 GND (power) "Regulator ground"

## TPS79401DGNT
designator U?
Single Output High PSRR LDO, 250 mA, Adjustable 1.22 to 5.5 V Output, 2.7 to 5.5 V Input, 8-pin MSOP (DGN), -40 to 85 degC, Green (RoHS & no Sb/Br); Manufacturer: Texas Instruments; PartNumber: TPS79401DGNT; Accuracy(%): 3; Iout(Max)(A): 0.25; Iq(Typ)(mA): 0.26; SubFamily: Single Channel LDO; Vdo(Typ)(mV): 155; Vin(Max)(V): 5.5; Vin(Min)(V): 2.7; Vout Adj(Min)(V): 1.22; DatasheetVersion: SLVS349E; PackageVersion: 4073271/F; PackageReference: DGN8-1760X1425TP; PackageDescription: 8-pin Plastic Small Outline, Body 3 x 3 mm, Pitch 0.65 mm; Supplier 1: Digi-Key; Supplier Part Number 1: 296-14428-2-ND; Supplier 2: Digi-Key; Supplier Part Number 2: 296-14428-1-ND; Supplier 3: Digi-Key; Supplier Part Number 3: 296-14428-6-ND; Supplier 4: Newark; Supplier Part Number 4: 32H6588; Supplier 5: Mouser; Supplier Part Number 5: 595-TPS79401DGNT; Eco-Plan: Green (RoHS & no Sb/Br); Vout Adj(Max)(V): 5.5; Mounting Technology: Surface Mount; Code_JEDEC: MO-187; ComponentLink1Description: Manufacturer URL; ComponentLink1URL: http://www.ti.com/; ComponentLink2Description: Datasheet; ComponentLink2URL: http://www.ti.com/general/docs/lit/getliterature.tsp?genericPartNumber=TPS79401&fileType=pdf; ComponentLink3Description: Package Specification; ComponentLink3URL: http://www.ti.com/litv/pdf/mpds046e
footprint TI-DGN8-1760X1425TP_N (SOIC, 8-Leads, Body 3x3mm, Pitch 0.65mm, Thermal Pad 1.76x1.425mm, IPC Medium Density)
footprint TI-DGN8-1760X1425TP_L (SOIC, 8-Leads, Body 3x3mm, Pitch 0.65mm, Thermal Pad 1.76x1.425mm, IPC High Density)
footprint TI-DGN8-1760X1425TP_M (SOIC, 8-Leads, Body 3x3mm, Pitch 0.65mm, Thermal Pad 1.76x1.425mm, IPC Low Density)
pins: 1 OUT (power) "Regulator output", 2 NC "No internal connection.", 3 FB (in) "Feedback input voltage for the adjustable device.", 4 NR "Connecting an external capacitor to this pin bypasses noise generated by the internal bandgap, which improves power-supply rejection and reduces output noise.", 5 GND (power) "Regulator ground", 6 EN (in) "The EN terminal is an input that enables or shuts down the device. When EN is a logic high, the device is enabled. When the device is a logic low, the device is in shutdown mode.", 7 NC "No internal connection.", 8 IN (power) "Unregulated input to the device.", 9 GND (power) "Regulator ground"

## TPS79401DGNTG4
designator U?
Single Output High PSRR LDO, 250 mA, Adjustable 1.22 to 5.5 V Output, 2.7 to 5.5 V Input, 8-pin MSOP (DGN), -40 to 85 degC, Green (RoHS & no Sb/Br); Manufacturer: Texas Instruments; PartNumber: TPS79401DGNTG4; Accuracy(%): 3; Fixed Output Options(V): 1.8; Iout(Max)(A): 0.25; Iq(Typ)(mA): 0.26; SubFamily: Single Channel LDO; Vdo(Typ)(mV): 150; Vin(Max)(V): 5.5; Vin(Min)(V): 2.7; Vout Adj(Min)(V): 1.22; DatasheetVersion: SLVS349E; PackageVersion: 4073271/F; PackageReference: DGN8-1760X1425TP; PackageDescription: 8-pin Plastic Small Outline, Body 3 x 3 mm, Pitch 0.65 mm; Supplier 1: Digi-Key; Supplier Part Number 1: TPS79401DGNTG4-ND; Supplier 2: Newark; Supplier Part Number 2: 54K1914; Supplier 3: Mouser; Supplier Part Number 3: 595-TPS79401DGNTG4; Eco-Plan: Green (RoHS & no Sb/Br); Vout Adj(Max)(V): 5.5; Mounting Technology: Surface Mount; Code_JEDEC: MO-187; ComponentLink1Description: Manufacturer URL; ComponentLink1URL: http://www.ti.com/; ComponentLink2Description: Datasheet; ComponentLink2URL: http://www.ti.com/general/docs/lit/getliterature.tsp?genericPartNumber=TPS79401&fileType=pdf; ComponentLink3Description: Package Specification; ComponentLink3URL: http://www.ti.com/litv/pdf/mpds046e
footprint TI-DGN8-1760X1425TP_N (SOIC, 8-Leads, Body 3x3mm, Pitch 0.65mm, Thermal Pad 1.76x1.425mm, IPC Medium Density)
footprint TI-DGN8-1760X1425TP_L (SOIC, 8-Leads, Body 3x3mm, Pitch 0.65mm, Thermal Pad 1.76x1.425mm, IPC High Density)
footprint TI-DGN8-1760X1425TP_M (SOIC, 8-Leads, Body 3x3mm, Pitch 0.65mm, Thermal Pad 1.76x1.425mm, IPC Low Density)
pins: 1 OUT (power) "Regulator output", 2 NC "No internal connection.", 3 FB (in) "Feedback input voltage for the adjustable device.", 4 NR "Connecting an external capacitor to this pin bypasses noise generated by the internal bandgap, which improves power-supply rejection and reduces output noise.", 5 GND (power) "Regulator ground", 6 EN (in) "The EN terminal is an input that enables or shuts down the device. When EN is a logic high, the device is enabled. When the device is a logic low, the device is in shutdown mode.", 7 NC "No internal connection.", 8 IN (power) "Unregulated input to the device.", 9 GND (power) "Regulator ground"